# EAGLE library part LM2575D2T-5G (library SamacSys_Parts)
ON SEMICONDUCTOR - LM2575D2T-5G - IC, POWER SUPPLY D2PAK Source: Datasheet <https://componentsearchengine.com/Datasheets/1/LM2575D2T-5G.pdf>
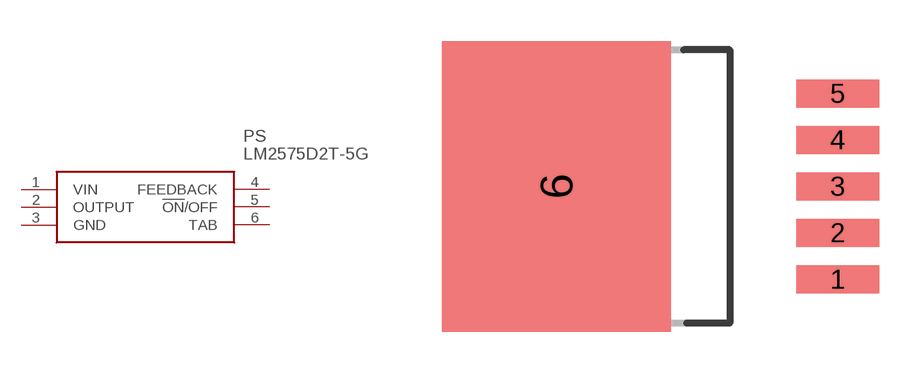
[diagram p0: symbol with the pads of D2TSUFFIX-CASE936A-02-ISSUEC; footprint D2TSUFFIX-CASE936A-02-ISSUEC]

Designator prefix PS

## LM2575D2T-5G (Description: ON SEMICONDUCTOR - LM2575D2T-5G - IC, POWER SUPPLY D2PAK; Height: mm; Manufacturer_Name: ON Semiconductor; Manufacturer_Part_Number: LM2575D2T-5G; Mouser_Part_Number: 863-LM2575D2T-5G; Mouser_Price-Stock: https://www.mouser.com/Search/Refine.aspx?Keyword=863-LM2575D2T-5G)  [D2TSUFFIX-CASE936A-02-ISSUEC]
1  VIN
2  OUTPUT
3  GND
4  FEEDBACK
5  !ON!/OFF
6  TAB

## Footprint D2TSUFFIX-CASE936A-02-ISSUEC (pad centres in mm)
D2TSUFFIX-CASE936A-02-ISSUEC
smd 3.05 x 1.016: 1 13.155,1.606; 2 13.155,3.308; 3 13.155,5.01; 4 13.155,6.712; 5 13.155,8.414
smd 8.38 x 10.66: 6 2.85,5.01